# EAGLE library part LAA108STR (library LAA108STR)
Solid State SPST-NO (1 Form A) x 2 8-SMD (0.300", 7.62mm) Source: Datasheet <https://www.ixysic.com/home/pdfs.nsf/www/LAA108.pdf/$file/LAA108.pdf>
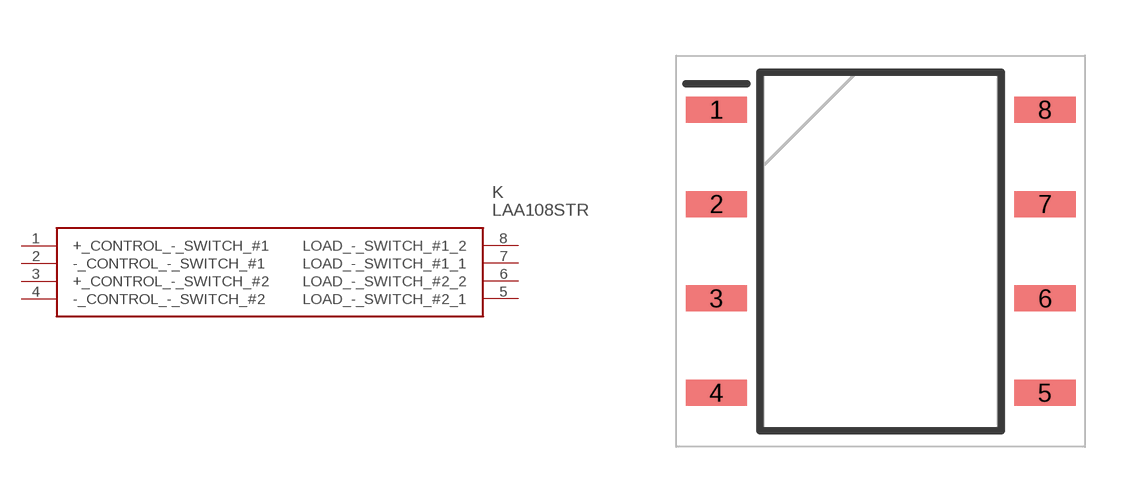
[diagram p0: symbol with the pads of SOP254P952X457-8N; footprint SOP254P952X457-8N]

Designator prefix K

## LAA108STR (Description: Solid State SPST-NO (1 Form A) x 2 8-SMD (0.300", 7.62mm); Height: 4.572mm; Manufacturer_Name: LITTELFUSE; Manufacturer_Part_Number: LAA108STR; Mouser_Part_Number: 849-LAA108STR; Mouser_Price-Stock: https://www.mouser.co.uk/ProductDetail/IXYS-Integrated-Circuits/LAA108STR?qs=OpMkDkHXivM0qwe7BHe4OQ%3D%3D)  [SOP254P952X457-8N]
1  +_CONTROL_-_SWITCH_#1
2  -_CONTROL_-_SWITCH_#1
3  +_CONTROL_-_SWITCH_#2
4  -_CONTROL_-_SWITCH_#2
5  LOAD_-_SWITCH_#2_1
6  LOAD_-_SWITCH_#2_2
7  LOAD_-_SWITCH_#1_1
8  LOAD_-_SWITCH_#1_2

## Footprint SOP254P952X457-8N (pad centres in mm)
8-Pin Surface Mount_2023
smd 1.65 x 0.7: 1 -4.425,3.81; 2 -4.425,1.27; 3 -4.425,-1.27; 4 -4.425,-3.81; 5 4.425,-3.81; 6 4.425,-1.27; 7 4.425,1.27; 8 4.425,3.81